# Altium footprint library Cameras.PcbLib: 3 footprints
Each footprint in its own frame and in the unit in brackets; x right, y up, seen from the top. Pads: shape width x height; smd on the part's side, far side on the other; paste and mask are expansions set on the pad; w line width, h text height; cw(c..) or ccw(c..) is an arc to the next point about the centre after c.
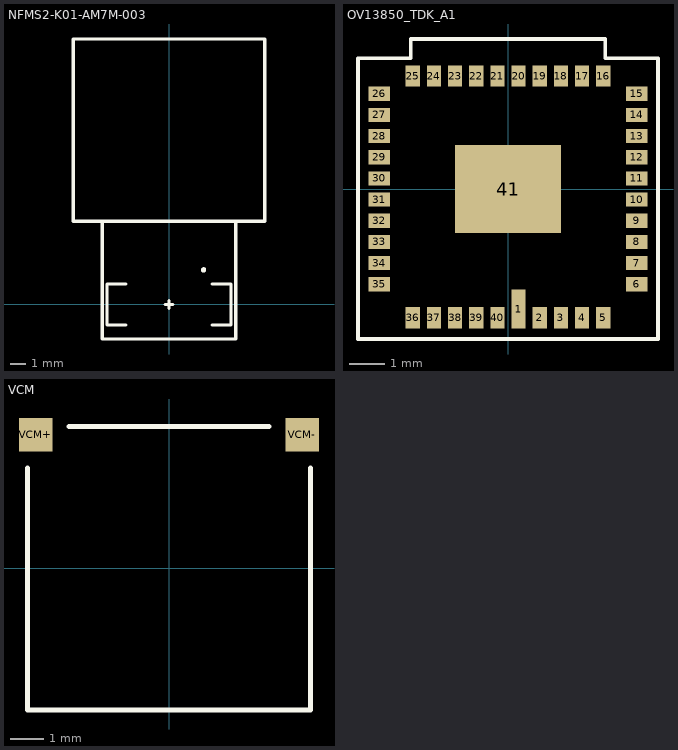
[diagram p0: the footprints below, top view; thin cyan lines are the x and y axes]

## NFMS2-K01-AM7M-003 [mm]
Top Overlay:
  circle w0.2: c2.2,2.2 r0.071
  lines w0.2: -4.25,5.3 -4.25,-2.2 4.25,-2.2 4.25,5.3 ; -2.75,-1.3 -3.95,-1.3 -3.95,1.3 -2.75,1.3 ; -0.25,0 0.25,0 ; 0,-0.25 0,0.25 ; 2.75,-1.3 3.95,-1.3 3.95,1.3 2.75,1.3 ; -6.1,5.3 6.1,5.3 6.1,16.9 -6.1,16.9 -6.1,5.3
3D body "MT9D111_AF_MOD.STEP": height 7.8, standoff 0, extent -6.1,-2.2 6.1,16.9

## OV13850_TDK_A1 [mm]
pads (41):
  rect 0.4x1.1 smd: 1(0.3,-3.4)
  rect 0.4x0.6 smd: 2(0.9,-3.65) 3(1.5,-3.65) 4(2.1,-3.65) 5(2.7,-3.65) 16(2.7,3.2) 17(2.1,3.2) 18(1.5,3.2) 19(0.9,3.2) 20(0.3,3.2) 21(-0.3,3.2) 22(-0.9,3.2) 23(-1.5,3.2) 24(-2.1,3.2) 25(-2.7,3.2) 36(-2.7,-3.65) 37(-2.1,-3.65) 38(-1.5,-3.65) 39(-0.9,-3.65) 40(-0.3,-3.65)
  rect 0.6x0.4 smd: 6(3.65,-2.7) 7(3.65,-2.1) 8(3.65,-1.5) 9(3.65,-0.9) 10(3.65,-0.3) 11(3.65,0.3) 12(3.65,0.9) 13(3.65,1.5) 14(3.65,2.1) 15(3.65,2.7) 26(-3.65,2.7) 27(-3.65,2.1) 28(-3.65,1.5) 29(-3.65,0.9) 30(-3.65,0.3) 31(-3.65,-0.3) 32(-3.65,-0.9) 33(-3.65,-1.5) 34(-3.65,-2.1) 35(-3.65,-2.7)
  rect 3x2.5 smd: 41(0,0)
Top Overlay:
  lines w0.1: -4.25,-4.25 4.25,-4.25 4.25,3.7 2.75,3.7 2.75,4.25 -2.75,4.25 -2.75,3.7 -4.25,3.7 -4.25,-4.25
3D body "ov13850.STEP": height 1.33, standoff 0.05, extent -4.25,-4.25 4.25,4.25

## VCM [mm]
pads (2):
  rect 1x1 smd: VCM+(-4,4) VCM-(4,4)
Top Overlay:
  lines w0.15: -4.25,3 -4.25,-4.25 4.25,-4.25 4.25,3 ; -3,4.25 3,4.25
3D body: height 5.27, standoff 0, extent -4.25,-4.25 4.25,4.25
3D body: height 5.27, standoff 5, extent -4.25,-4.25 4.25,4.25